# Altium schematic symbol library Capacitors.SchLib: 8 symbols
Pins are listed as number, name and electrical type; pins without a type are passive.

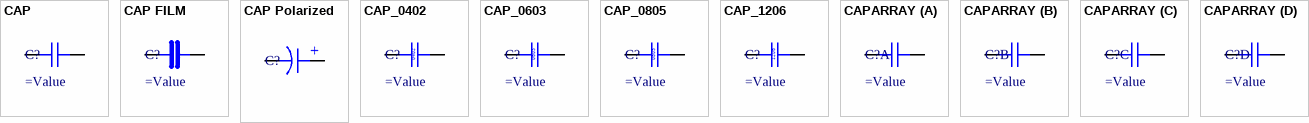
[diagram p0: symbols CAP to CAPARRAY]

## CAP
designator C?
Capacitor
pins: 1, 2

## CAP FILM
designator C?
Cap. Film
pins: 1, 2

## CAP Polarized
designator C?
Alu Cap.
pins: 1, 2
text: +

## CAP_0402
designator C?
Cap. 0402
pins: 1, 2
text: 0402

## CAP_0603
designator C?
Cap. 0603
pins: 1, 2
text: 0603

## CAP_0805
designator C?
Cap. 0805
pins: 1, 2
text: 0805

## CAP_1206
designator C?
Cap. 1206
pins: 1, 2
text: 1206

## CAPARRAY
designator C?
Cap. Array
part A pins: 1, 2
part B pins: 3, 4
part C pins: 5, 6
part D pins: 7, 8